# EAGLE library part STUSB4500 (library DD_STUSB4500)
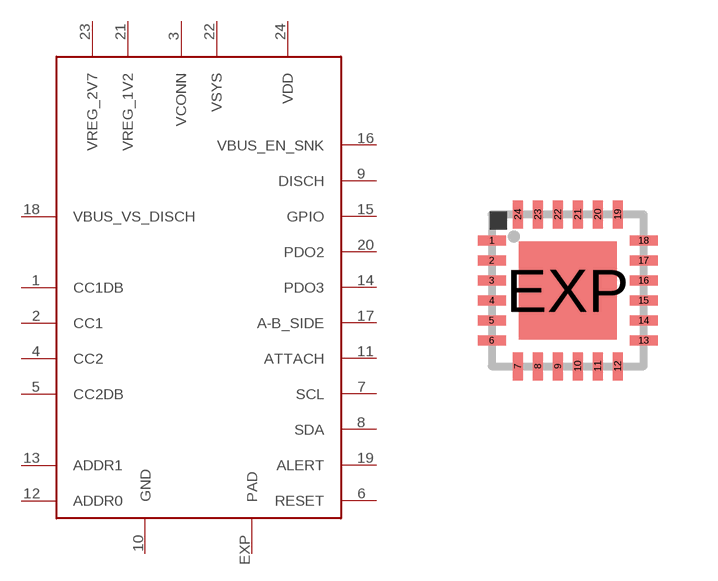
[diagram p0: symbol with the pads of QFN24-4X4; footprint QFN24-4X4]

Designator prefix -

## STUSB4500QFN24_4X4  [QFN24-4X4]
1  CC1DB
2  CC1
3  VCONN
4  CC2
5  CC2DB
6  RESET
7  SCL
8  SDA
9  DISCH
10  GND
11  ATTACH
12  ADDR0
13  ADDR1
14  PDO3
15  GPIO
16  VBUS_EN_SNK
17  A-B_SIDE
18  VBUS_VS_DISCH
19  ALERT
20  PDO2
21  VREG_1V2
22  VSYS
23  VREG_2V7
24  VDD
EXP  PAD

## Footprint QFN24-4X4 (pad centres in mm)
UF Package 24-Lead (4mm × 4mm) Plastic QFN Source: http://cds.linear.com/docs/Datasheet/5598f.pdf
smd 0.7 x 0.25: 1 -1.9,1.25; 2 -1.9,0.75; 3 -1.9,0.25; 4 -1.9,-0.25; 5 -1.9,-0.75; 6 -1.9,-1.25; 13 1.9,-1.25; 14 1.9,-0.75; 15 1.9,-0.25; 16 1.9,0.25; 17 1.9,0.75; 18 1.9,1.25
smd 0.25 x 0.7: 7 -1.25,-1.9; 8 -0.75,-1.9; 9 -0.25,-1.9; 10 0.25,-1.9; 11 0.75,-1.9; 12 1.25,-1.9; 19 1.25,1.9; 20 0.75,1.9; 21 0.25,1.9; 22 -0.25,1.9; 23 -0.75,1.9; 24 -1.25,1.9
smd 2.45 x 2.45: EXP 0,0